# EAGLE library part J0011 (library con-pulse)
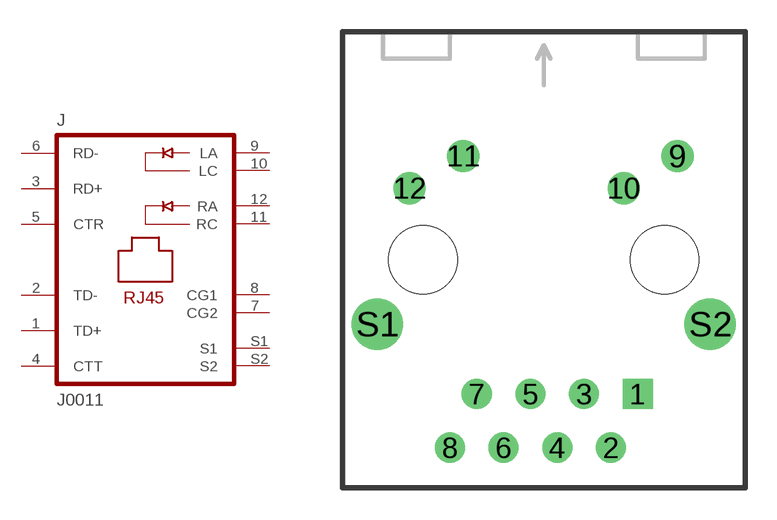
[diagram p1: symbol with the pads of PJ-J0; footprint PJ-J0]

Designator prefix J

## J0011  [PJ-J0]
1  TD+
2  TD-
3  RD+
4  CTT
5  CTR
6  RD-
7  CG2  pas
8  CG1  pas
9  LA  pas
10  LC  pas
11  RC  pas
12  RA  pas
S1  S1  pas
S2  S2  pas

## Footprint PJ-J0 (pad centres in mm)
drill 0.914 square: 1 -5.715,5.08
drill 0.914 round: 2 -6.985,2.54; 3 -8.255,5.08; 4 -9.525,2.54; 5 -10.795,5.08; 6 -12.065,2.54; 7 -13.335,5.08; 8 -14.605,2.54
drill 1.016 round: 9 -3.835,16.332; 10 -6.375,14.808; 11 -13.97,16.332; 12 -16.51,14.808
drill 1.626 round: S1 -18.034,8.382; S2 -2.286,8.382
hole 3.251 at -15.875,11.43
hole 3.251 at -4.445,11.43